# Altium footprint library Magnetic.PcbLib: 2 footprints
Each footprint in its own frame and in the unit in brackets; x right, y up, seen from the top. Pads: shape width x height; smd on the part's side, far side on the other; paste and mask are expansions set on the pad; w line width, h text height; cw(c..) or ccw(c..) is an arc to the next point about the centre after c.
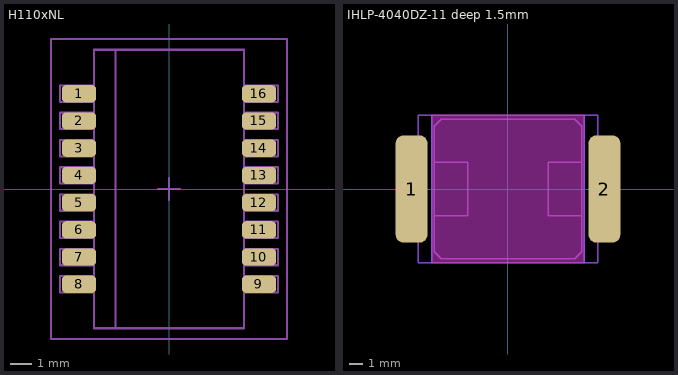
[diagram p0: the footprints below, top view; thin cyan lines are the x and y axes]

## H110xNL [mm]
pads (16):
  rrect50% 1.6x0.8 smd: 1(-4.2,4.445) 2(-4.2,3.175) 3(-4.2,1.905) 4(-4.2,0.635) 5(-4.2,-0.635) 6(-4.2,-1.905) 7(-4.2,-3.175) 8(-4.2,-4.445) 9(4.2,-4.445) 10(4.2,-3.175) 11(4.2,-1.905) 12(4.2,-0.635) 13(4.2,0.635) 14(4.2,1.905) 15(4.2,3.175) 16(4.2,4.445)
Mechanical 13:
  lines w0.1: -3.5,-4.826 -5.08,-4.826 -5.08,-4.064 -3.5,-4.064 ; -3.5,-3.556 -5.08,-3.556 -5.08,-2.794 -3.5,-2.794 ; -3.5,-2.286 -5.08,-2.286 -5.08,-1.524 -3.5,-1.524 ; -3.5,-1.016 -5.08,-1.016 -5.08,-0.254 -3.5,-0.254 ; -3.5,0.254 -5.08,0.254 -5.08,1.016 -3.5,1.016 ; -3.5,1.524 -5.08,1.524 -5.08,2.286 -3.5,2.286 ; -3.5,2.794 -5.08,2.794 -5.08,3.556 -3.5,3.556 ; -3.5,4.064 -5.08,4.064 -5.08,4.826 -3.5,4.826 ; -2.5,-6.5 -2.5,6.5 ; 3.5,-4.826 5.08,-4.826 5.08,-4.064 3.5,-4.064 ; 3.5,-3.556 5.08,-3.556 5.08,-2.794 3.5,-2.794 ; 3.5,-2.286 5.08,-2.286 5.08,-1.524 3.5,-1.524 ; 3.5,-1.016 5.08,-1.016 5.08,-0.254 3.5,-0.254 ; 3.5,0.254 5.08,0.254 5.08,1.016 3.5,1.016 ; 3.5,1.524 5.08,1.524 5.08,2.286 3.5,2.286 ; 3.5,2.794 5.08,2.794 5.08,3.556 3.5,3.556 ; 3.5,4.064 5.08,4.064 5.08,4.826 3.5,4.826 ; -3.5,-6.5 3.5,-6.5 3.5,6.5 -3.5,6.5 -3.5,-6.5
Mechanical 15:
  lines w0.1: -0.5,0 0.5,0 ; 0,-0.5 0,0.5 ; -5.5,-7 -5.5,7 5.5,7 5.5,-7 -5.5,-7
3D body: height 6, standoff 0, extent -3.5,-6.5 3.5,6.5

## IHLP-4040DZ-11 deep 1.5mm [mm] "Low Profile High Current Inductor 10.3x10.3x4.0mm"
pads (2):
  rrect50% 2.4x8 smd: 1(-7.2,0) 2(7.2,0)
Bottom Layer keep-out:
  lines w0.1: -6.7,-5.5 -6.7,5.5 -5.7,5.5 -5.7,-5.5 -6.7,-5.5 ; 5.7,-5.5 6.7,-5.5 6.7,5.5 5.7,5.5 5.7,-5.5
Keep-Out Layer:
  board cut-out: -5.7,5.5 5.7,5.5 5.7,-5.5 -5.7,-5.5
  lines w0.1: -5.7,-5.5 -5.7,5.5 5.7,5.5 5.7,-5.5 -5.7,-5.5
Mechanical 1:
  lines w0.1: -5.7,-5.5 -5.7,5.5 5.7,5.5 5.7,-5.5 -5.7,-5.5
Mechanical 13:
  lines w0.1: -5.5,-4.7 -5,-5.2 5,-5.2 5.5,-4.7 5.5,4.7 5,5.2 -5,5.2 -5.5,4.7 -5.5,-4.7
Mechanical 14:
  lines w0.1: -5.5,-2 -3,-2 -3,2 -5.5,2 ; 5.5,-2 3,-2 3,2 5.5,2 ; -5.5,-4.7 -5,-5.2 5,-5.2 5.5,-4.7 5.5,4.7 5,5.2 -5,5.2 -5.5,4.7 -5.5,-4.7
3D body: height 2, standoff -1.5, extent 3,-2 5.7,2
3D body: height 2, standoff -1.5, extent -5.7,-2 -3,2
3D body: height 2.5, standoff -1, extent -5.5,-5.2 5.5,5.2
3D body: height 2, standoff 0, extent -5.7,-4 -5.5,4
3D body: height 2, standoff 0, extent 5.5,-4 5.7,4